# Altium integrated library micro-renesas.IntLib: 17 symbols
Pins are listed as number, name and electrical type; pins without a type are passive.

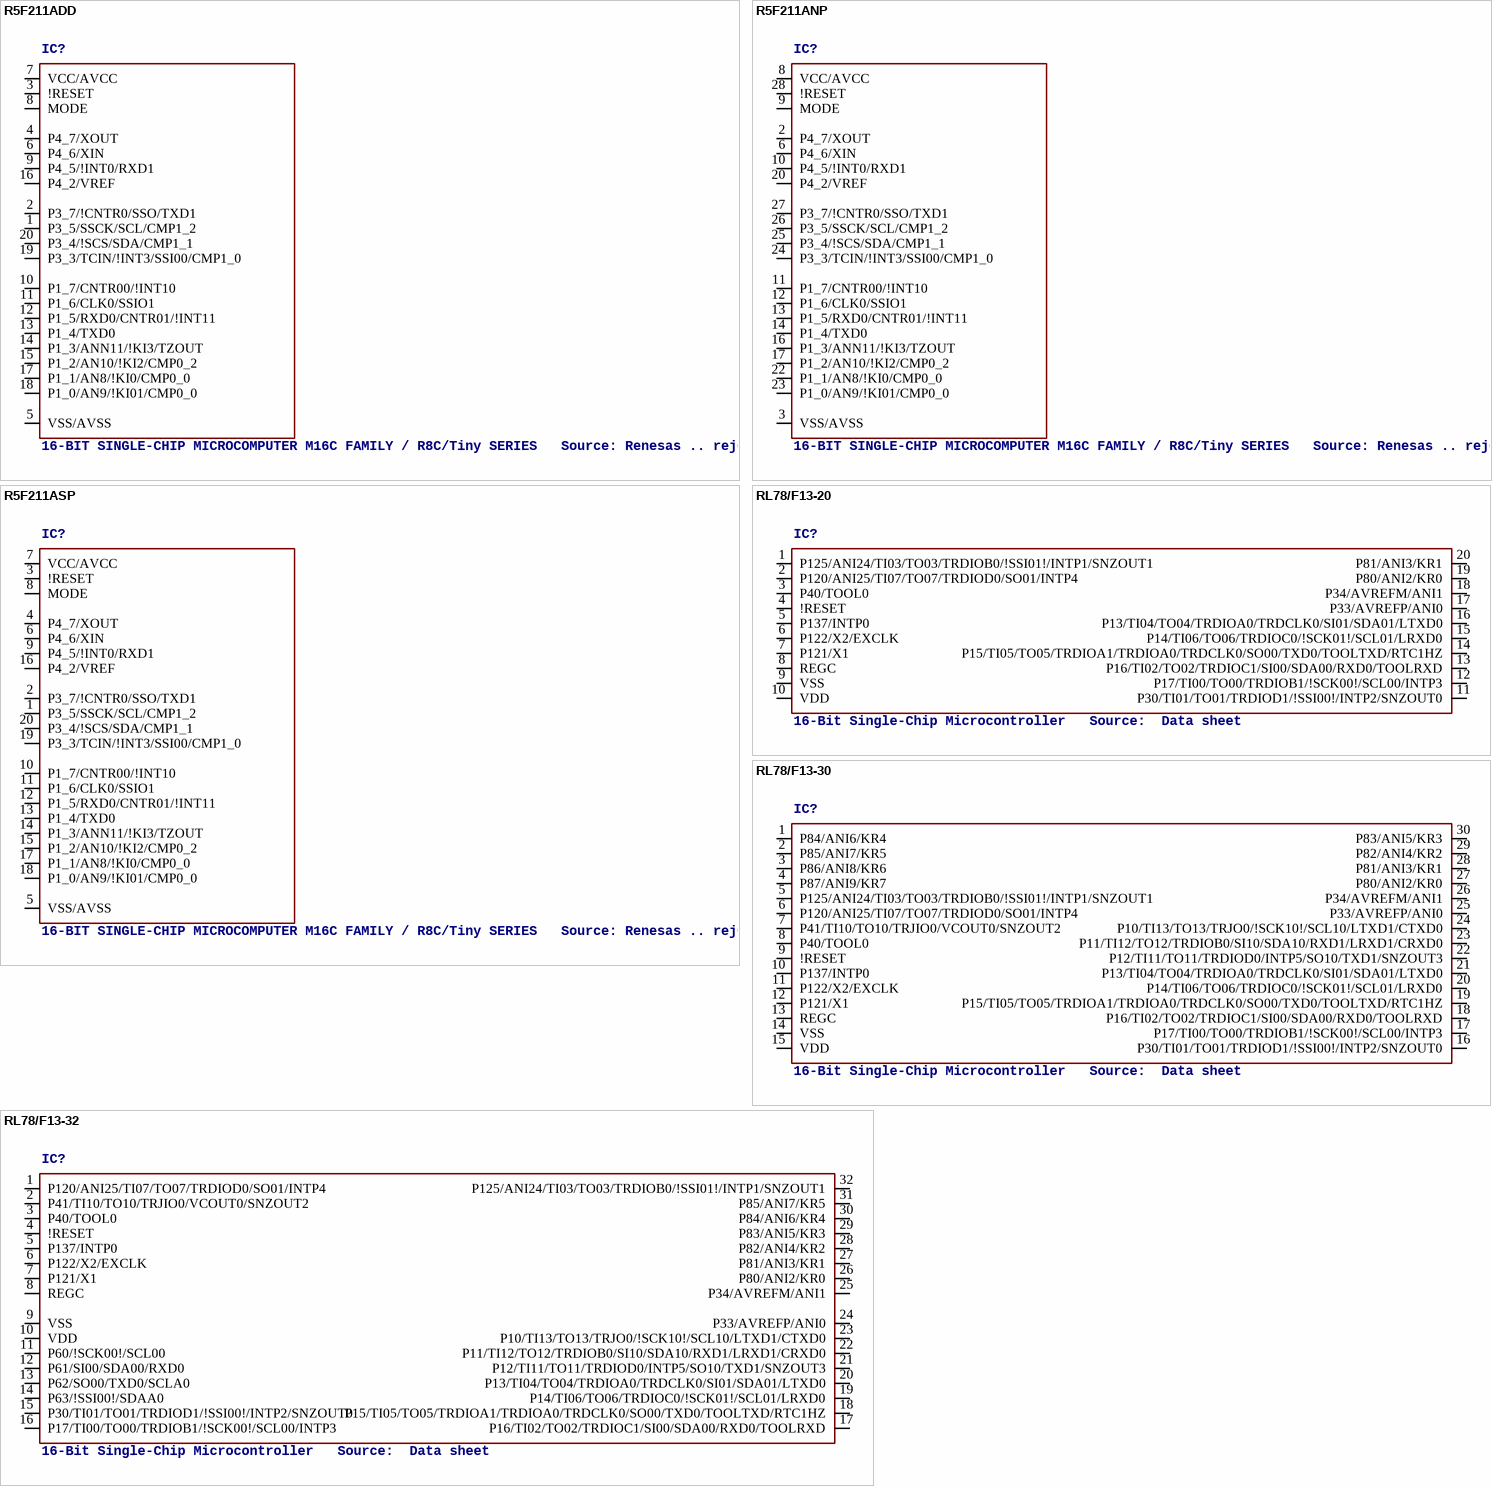
[diagram p0: symbols R5F211ADD to RL78/F13-32]

## R5F211ADD
designator IC?, comment 16-BIT SINGLE-CHIP MICROCOMPUTER M16C FAMILY / R8C/Tiny SERIES   Source: Renesas .. rej09b0252_r8c1a1bhm.pdf
OC_FARNELL: unknown; OC_NEWARK: unknown
footprint PRDP0020BA-A
pins: 1 P3_5/SSCK/SCL/CMP1_2, 2 P3_7/!CNTR0/SSO/TXD1, 3 !RESET, 4 P4_7/XOUT, 5 VSS/AVSS, 6 P4_6/XIN, 7 VCC/AVCC, 8 MODE, 9 P4_5/!INT0/RXD1, 10 P1_7/CNTR00/!INT10, 11 P1_6/CLK0/SSIO1, 12 P1_5/RXD0/CNTR01/!INT11, 13 P1_4/TXD0, 14 P1_3/ANN11/!KI3/TZOUT, 15 P1_2/AN10/!KI2/CMP0_2, 16 P4_2/VREF, 17 P1_1/AN8/!KI0/CMP0_0, 18 P1_0/AN9/!KI01/CMP0_0, 19 P3_3/TCIN/!INT3/SSI00/CMP1_0, 20 P3_4/!SCS/SDA/CMP1_1

## R5F211ANP
designator IC?, comment 16-BIT SINGLE-CHIP MICROCOMPUTER M16C FAMILY / R8C/Tiny SERIES   Source: Renesas .. rej09b0252_r8c1a1bhm.pdf
OC_FARNELL: unknown; OC_NEWARK: unknown
footprint PWQN0028KA-B
pins: 2 P4_7/XOUT, 3 VSS/AVSS, 6 P4_6/XIN, 8 VCC/AVCC, 9 MODE, 10 P4_5/!INT0/RXD1, 11 P1_7/CNTR00/!INT10, 12 P1_6/CLK0/SSIO1, 13 P1_5/RXD0/CNTR01/!INT11, 14 P1_4/TXD0, 16 P1_3/ANN11/!KI3/TZOUT, 17 P1_2/AN10/!KI2/CMP0_2, 20 P4_2/VREF, 22 P1_1/AN8/!KI0/CMP0_0, 23 P1_0/AN9/!KI01/CMP0_0, 24 P3_3/TCIN/!INT3/SSI00/CMP1_0, 25 P3_4/!SCS/SDA/CMP1_1, 26 P3_5/SSCK/SCL/CMP1_2, 27 P3_7/!CNTR0/SSO/TXD1, 28 !RESET

## R5F211ASP
designator IC?, comment 16-BIT SINGLE-CHIP MICROCOMPUTER M16C FAMILY / R8C/Tiny SERIES   Source: Renesas .. rej09b0252_r8c1a1bhm.pdf
MPN: R5F211A4SP#U0; OC_FARNELL: unknown; OC_NEWARK: unknown; OC_FARNELL: 1677765; OC_NEWARK: 40P3229
footprint PLSP0020JB-A
pins: 1 P3_5/SSCK/SCL/CMP1_2, 2 P3_7/!CNTR0/SSO/TXD1, 3 !RESET, 4 P4_7/XOUT, 5 VSS/AVSS, 6 P4_6/XIN, 7 VCC/AVCC, 8 MODE, 9 P4_5/!INT0/RXD1, 10 P1_7/CNTR00/!INT10, 11 P1_6/CLK0/SSIO1, 12 P1_5/RXD0/CNTR01/!INT11, 13 P1_4/TXD0, 14 P1_3/ANN11/!KI3/TZOUT, 15 P1_2/AN10/!KI2/CMP0_2, 16 P4_2/VREF, 17 P1_1/AN8/!KI0/CMP0_0, 18 P1_0/AN9/!KI01/CMP0_0, 19 P3_3/TCIN/!INT3/SSI00/CMP1_0, 20 P3_4/!SCS/SDA/CMP1_1

## RL78/F13-20
designator IC?, comment 16-Bit Single-Chip Microcontroller   Source:  Data sheet
footprint PP_SSOP20_7.62MM
pins: 1 P125/ANI24/TI03/TO03/TRDIOB0/!SSI01!/INTP1/SNZOUT1, 2 P120/ANI25/TI07/TO07/TRDIOD0/SO01/INTP4, 3 P40/TOOL0, 4 !RESET, 5 P137/INTP0, 6 P122/X2/EXCLK, 7 P121/X1, 8 REGC, 9 VSS (power), 10 VDD (power), 11 P30/TI01/TO01/TRDIOD1/!SSI00!/INTP2/SNZOUT0, 12 P17/TI00/TO00/TRDIOB1/!SCK00!/SCL00/INTP3, 13 P16/TI02/TO02/TRDIOC1/SI00/SDA00/RXD0/TOOLRXD, 14 P15/TI05/TO05/TRDIOA1/TRDIOA0/TRDCLK0/SO00/TXD0/TOOLTXD/RTC1HZ, 15 P14/TI06/TO06/TRDIOC0/!SCK01!/SCL01/LRXD0, 16 P13/TI04/TO04/TRDIOA0/TRDCLK0/SI01/SDA01/LTXD0, 17 P33/AVREFP/ANI0, 18 P34/AVREFM/ANI1, 19 P80/ANI2/KR0, 20 P81/ANI3/KR1

## RL78/F13-30
designator IC?, comment 16-Bit Single-Chip Microcontroller   Source:  Data sheet
footprint P-LSSOP30-6.1X9.7
pins: 1 P84/ANI6/KR4, 2 P85/ANI7/KR5, 3 P86/ANI8/KR6, 4 P87/ANI9/KR7, 5 P125/ANI24/TI03/TO03/TRDIOB0/!SSI01!/INTP1/SNZOUT1, 6 P120/ANI25/TI07/TO07/TRDIOD0/SO01/INTP4, 7 P41/TI10/TO10/TRJIO0/VCOUT0/SNZOUT2, 8 P40/TOOL0, 9 !RESET, 10 P137/INTP0, 11 P122/X2/EXCLK, 12 P121/X1, 13 REGC, 14 VSS (power), 15 VDD (power), 16 P30/TI01/TO01/TRDIOD1/!SSI00!/INTP2/SNZOUT0, 17 P17/TI00/TO00/TRDIOB1/!SCK00!/SCL00/INTP3, 18 P16/TI02/TO02/TRDIOC1/SI00/SDA00/RXD0/TOOLRXD, 19 P15/TI05/TO05/TRDIOA1/TRDIOA0/TRDCLK0/SO00/TXD0/TOOLTXD/RTC1HZ, 20 P14/TI06/TO06/TRDIOC0/!SCK01!/SCL01/LRXD0, 21 P13/TI04/TO04/TRDIOA0/TRDCLK0/SI01/SDA01/LTXD0, 22 P12/TI11/TO11/TRDIOD0/INTP5/SO10/TXD1/SNZOUT3, 23 P11/TI12/TO12/TRDIOB0/SI10/SDA10/RXD1/LRXD1/CRXD0, 24 P10/TI13/TO13/TRJO0/!SCK10!/SCL10/LTXD1/CTXD0, 25 P33/AVREFP/ANI0, 26 P34/AVREFM/ANI1, 27 P80/ANI2/KR0, 28 P81/ANI3/KR1, 29 P82/ANI4/KR2, 30 P83/ANI5/KR3

## RL78/F13-32
designator IC?, comment 16-Bit Single-Chip Microcontroller   Source:  Data sheet
footprint P-HVQFN32-5X5
pins: 1 P120/ANI25/TI07/TO07/TRDIOD0/SO01/INTP4, 2 P41/TI10/TO10/TRJIO0/VCOUT0/SNZOUT2, 3 P40/TOOL0, 4 !RESET, 5 P137/INTP0, 6 P122/X2/EXCLK, 7 P121/X1, 8 REGC, 9 VSS (power), 10 VDD (power), 11 P60/!SCK00!/SCL00, 12 P61/SI00/SDA00/RXD0, 13 P62/SO00/TXD0/SCLA0, 14 P63/!SSI00!/SDAA0, 15 P30/TI01/TO01/TRDIOD1/!SSI00!/INTP2/SNZOUT0, 16 P17/TI00/TO00/TRDIOB1/!SCK00!/SCL00/INTP3, 17 P16/TI02/TO02/TRDIOC1/SI00/SDA00/RXD0/TOOLRXD, 18 P15/TI05/TO05/TRDIOA1/TRDIOA0/TRDCLK0/SO00/TXD0/TOOLTXD/RTC1HZ, 19 P14/TI06/TO06/TRDIOC0/!SCK01!/SCL01/LRXD0, 20 P13/TI04/TO04/TRDIOA0/TRDCLK0/SI01/SDA01/LTXD0, 21 P12/TI11/TO11/TRDIOD0/INTP5/SO10/TXD1/SNZOUT3, 22 P11/TI12/TO12/TRDIOB0/SI10/SDA10/RXD1/LRXD1/CRXD0, 23 P10/TI13/TO13/TRJO0/!SCK10!/SCL10/LTXD1/CTXD0, 24 P33/AVREFP/ANI0, 25 P34/AVREFM/ANI1, 26 P80/ANI2/KR0, 27 P81/ANI3/KR1, 28 P82/ANI4/KR2, 29 P83/ANI5/KR3, 30 P84/ANI6/KR4, 31 P85/ANI7/KR5, 32 P125/ANI24/TI03/TO03/TRDIOB0/!SSI01!/INTP1/SNZOUT1

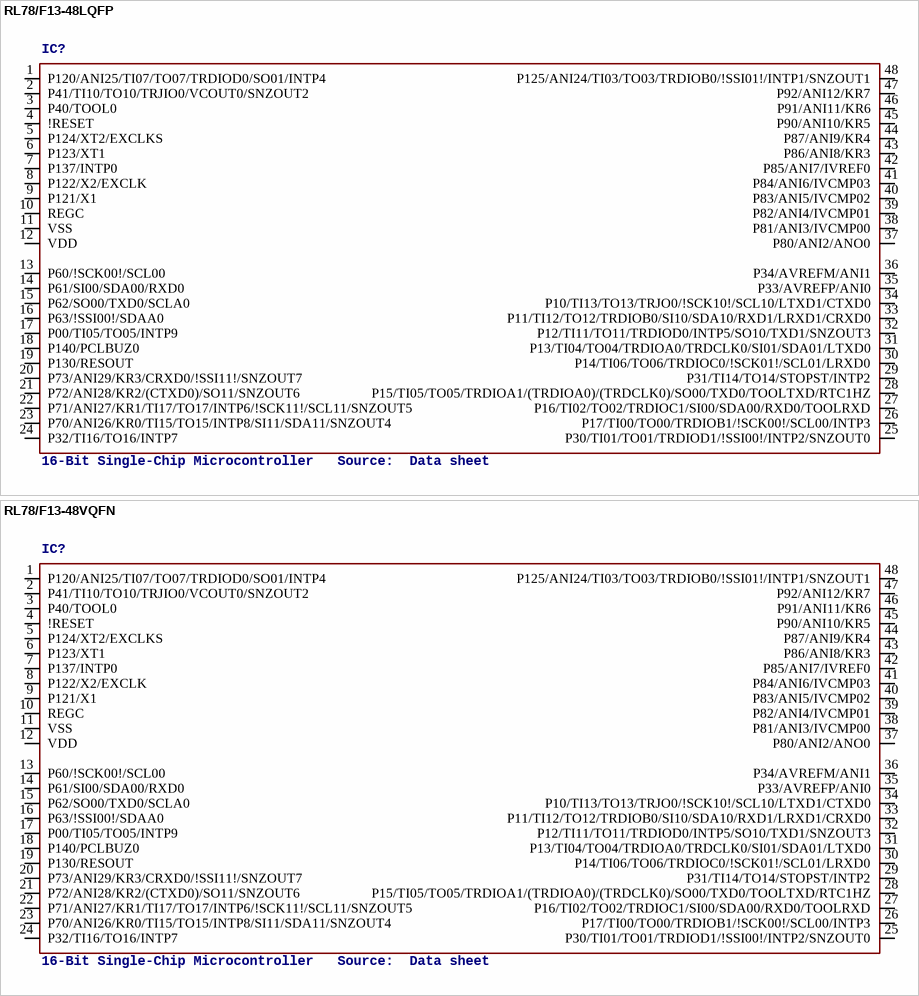
[diagram p1: symbols RL78/F13-48LQFP to RL78/F13-48VQFN]

## RL78/F13-48LQFP
designator IC?, comment 16-Bit Single-Chip Microcontroller   Source:  Data sheet
footprint P-LFQFP48-7X7
pins: 1 P120/ANI25/TI07/TO07/TRDIOD0/SO01/INTP4, 2 P41/TI10/TO10/TRJIO0/VCOUT0/SNZOUT2, 3 P40/TOOL0, 4 !RESET, 5 P124/XT2/EXCLKS, 6 P123/XT1, 7 P137/INTP0, 8 P122/X2/EXCLK, 9 P121/X1, 10 REGC, 11 VSS (power), 12 VDD (power), 13 P60/!SCK00!/SCL00, 14 P61/SI00/SDA00/RXD0, 15 P62/SO00/TXD0/SCLA0, 16 P63/!SSI00!/SDAA0, 17 P00/TI05/TO05/INTP9, 18 P140/PCLBUZ0, 19 P130/RESOUT, 20 P73/ANI29/KR3/CRXD0/!SSI11!/SNZOUT7, 21 P72/ANI28/KR2/(CTXD0)/SO11/SNZOUT6, 22 P71/ANI27/KR1/TI17/TO17/INTP6/!SCK11!/SCL11/SNZOUT5, 23 P70/ANI26/KR0/TI15/TO15/INTP8/SI11/SDA11/SNZOUT4, 24 P32/TI16/TO16/INTP7, 25 P30/TI01/TO01/TRDIOD1/!SSI00!/INTP2/SNZOUT0, 26 P17/TI00/TO00/TRDIOB1/!SCK00!/SCL00/INTP3, 27 P16/TI02/TO02/TRDIOC1/SI00/SDA00/RXD0/TOOLRXD, 28 P15/TI05/TO05/TRDIOA1/(TRDIOA0)/(TRDCLK0)/SO00/TXD0/TOOLTXD/RTC1HZ, 29 P31/TI14/TO14/STOPST/INTP2, 30 P14/TI06/TO06/TRDIOC0/!SCK01!/SCL01/LRXD0, 31 P13/TI04/TO04/TRDIOA0/TRDCLK0/SI01/SDA01/LTXD0, 32 P12/TI11/TO11/TRDIOD0/INTP5/SO10/TXD1/SNZOUT3, 33 P11/TI12/TO12/TRDIOB0/SI10/SDA10/RXD1/LRXD1/CRXD0, 34 P10/TI13/TO13/TRJO0/!SCK10!/SCL10/LTXD1/CTXD0, 35 P33/AVREFP/ANI0, 36 P34/AVREFM/ANI1, 37 P80/ANI2/ANO0, 38 P81/ANI3/IVCMP00, 39 P82/ANI4/IVCMP01, 40 P83/ANI5/IVCMP02, 41 P84/ANI6/IVCMP03, 42 P85/ANI7/IVREF0, 43 P86/ANI8/KR3, 44 P87/ANI9/KR4, 45 P90/ANI10/KR5, 46 P91/ANI11/KR6, 47 P92/ANI12/KR7, 48 P125/ANI24/TI03/TO03/TRDIOB0/!SSI01!/INTP1/SNZOUT1

## RL78/F13-48VQFN
designator IC?, comment 16-Bit Single-Chip Microcontroller   Source:  Data sheet
footprint P-HVQFN48-7X7
pins: 1 P120/ANI25/TI07/TO07/TRDIOD0/SO01/INTP4, 2 P41/TI10/TO10/TRJIO0/VCOUT0/SNZOUT2, 3 P40/TOOL0, 4 !RESET, 5 P124/XT2/EXCLKS, 6 P123/XT1, 7 P137/INTP0, 8 P122/X2/EXCLK, 9 P121/X1, 10 REGC, 11 VSS (power), 12 VDD (power), 13 P60/!SCK00!/SCL00, 14 P61/SI00/SDA00/RXD0, 15 P62/SO00/TXD0/SCLA0, 16 P63/!SSI00!/SDAA0, 17 P00/TI05/TO05/INTP9, 18 P140/PCLBUZ0, 19 P130/RESOUT, 20 P73/ANI29/KR3/CRXD0/!SSI11!/SNZOUT7, 21 P72/ANI28/KR2/(CTXD0)/SO11/SNZOUT6, 22 P71/ANI27/KR1/TI17/TO17/INTP6/!SCK11!/SCL11/SNZOUT5, 23 P70/ANI26/KR0/TI15/TO15/INTP8/SI11/SDA11/SNZOUT4, 24 P32/TI16/TO16/INTP7, 25 P30/TI01/TO01/TRDIOD1/!SSI00!/INTP2/SNZOUT0, 26 P17/TI00/TO00/TRDIOB1/!SCK00!/SCL00/INTP3, 27 P16/TI02/TO02/TRDIOC1/SI00/SDA00/RXD0/TOOLRXD, 28 P15/TI05/TO05/TRDIOA1/(TRDIOA0)/(TRDCLK0)/SO00/TXD0/TOOLTXD/RTC1HZ, 29 P31/TI14/TO14/STOPST/INTP2, 30 P14/TI06/TO06/TRDIOC0/!SCK01!/SCL01/LRXD0, 31 P13/TI04/TO04/TRDIOA0/TRDCLK0/SI01/SDA01/LTXD0, 32 P12/TI11/TO11/TRDIOD0/INTP5/SO10/TXD1/SNZOUT3, 33 P11/TI12/TO12/TRDIOB0/SI10/SDA10/RXD1/LRXD1/CRXD0, 34 P10/TI13/TO13/TRJO0/!SCK10!/SCL10/LTXD1/CTXD0, 35 P33/AVREFP/ANI0, 36 P34/AVREFM/ANI1, 37 P80/ANI2/ANO0, 38 P81/ANI3/IVCMP00, 39 P82/ANI4/IVCMP01, 40 P83/ANI5/IVCMP02, 41 P84/ANI6/IVCMP03, 42 P85/ANI7/IVREF0, 43 P86/ANI8/KR3, 44 P87/ANI9/KR4, 45 P90/ANI10/KR5, 46 P91/ANI11/KR6, 47 P92/ANI12/KR7, 48 P125/ANI24/TI03/TO03/TRDIOB0/!SSI01!/INTP1/SNZOUT1

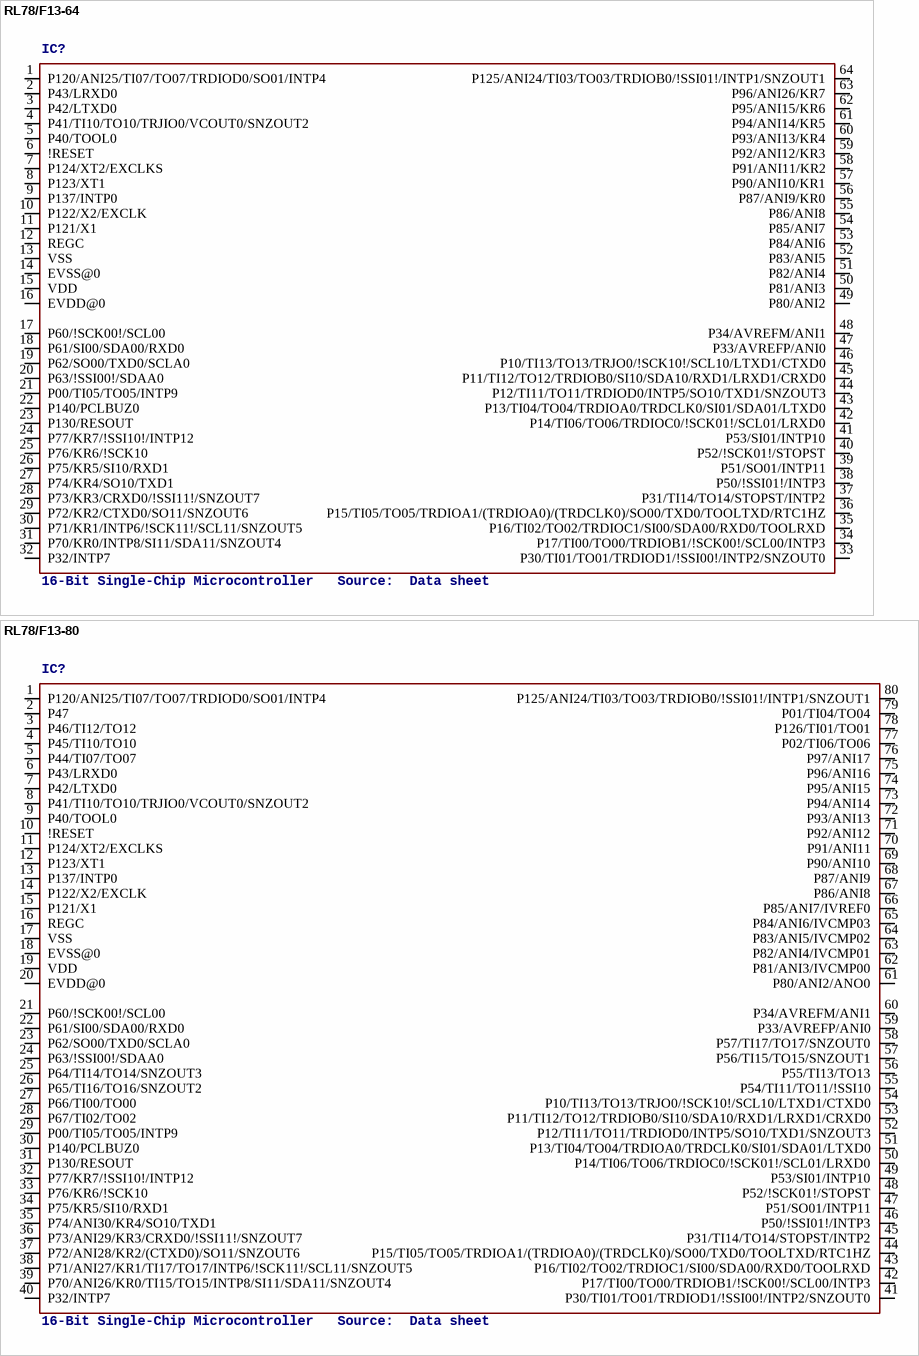
[diagram p2: symbols RL78/F13-64 to RL78/F13-80]

## RL78/F13-64
designator IC?, comment 16-Bit Single-Chip Microcontroller   Source:  Data sheet
footprint P-LFQFP64-10X10
pins: 1 P120/ANI25/TI07/TO07/TRDIOD0/SO01/INTP4, 2 P43/LRXD0, 3 P42/LTXD0, 4 P41/TI10/TO10/TRJIO0/VCOUT0/SNZOUT2, 5 P40/TOOL0, 6 !RESET, 7 P124/XT2/EXCLKS, 8 P123/XT1, 9 P137/INTP0, 10 P122/X2/EXCLK, 11 P121/X1, 12 REGC, 13 VSS (power), 14 EVSS@0 (power), 15 VDD (power), 16 EVDD@0 (power), 17 P60/!SCK00!/SCL00, 18 P61/SI00/SDA00/RXD0, 19 P62/SO00/TXD0/SCLA0, 20 P63/!SSI00!/SDAA0, 21 P00/TI05/TO05/INTP9, 22 P140/PCLBUZ0, 23 P130/RESOUT, 24 P77/KR7/!SSI10!/INTP12, 25 P76/KR6/!SCK10, 26 P75/KR5/SI10/RXD1, 27 P74/KR4/SO10/TXD1, 28 P73/KR3/CRXD0/!SSI11!/SNZOUT7, 29 P72/KR2/CTXD0/SO11/SNZOUT6, 30 P71/KR1/INTP6/!SCK11!/SCL11/SNZOUT5, 31 P70/KR0/INTP8/SI11/SDA11/SNZOUT4, 32 P32/INTP7, 33 P30/TI01/TO01/TRDIOD1/!SSI00!/INTP2/SNZOUT0, 34 P17/TI00/TO00/TRDIOB1/!SCK00!/SCL00/INTP3, 35 P16/TI02/TO02/TRDIOC1/SI00/SDA00/RXD0/TOOLRXD, 36 P15/TI05/TO05/TRDIOA1/(TRDIOA0)/(TRDCLK0)/SO00/TXD0/TOOLTXD/RTC1HZ, 37 P31/TI14/TO14/STOPST/INTP2, 38 P50/!SSI01!/INTP3, 39 P51/SO01/INTP11, 40 P52/!SCK01!/STOPST, 41 P53/SI01/INTP10, 42 P14/TI06/TO06/TRDIOC0/!SCK01!/SCL01/LRXD0, 43 P13/TI04/TO04/TRDIOA0/TRDCLK0/SI01/SDA01/LTXD0, 44 P12/TI11/TO11/TRDIOD0/INTP5/SO10/TXD1/SNZOUT3, 45 P11/TI12/TO12/TRDIOB0/SI10/SDA10/RXD1/LRXD1/CRXD0, 46 P10/TI13/TO13/TRJO0/!SCK10!/SCL10/LTXD1/CTXD0, 47 P33/AVREFP/ANI0, 48 P34/AVREFM/ANI1, 49 P80/ANI2, 50 P81/ANI3, 51 P82/ANI4, 52 P83/ANI5, 53 P84/ANI6, 54 P85/ANI7, 55 P86/ANI8, 56 P87/ANI9/KR0, 57 P90/ANI10/KR1, 58 P91/ANI11/KR2, 59 P92/ANI12/KR3, 60 P93/ANI13/KR4, 61 P94/ANI14/KR5, 62 P95/ANI15/KR6, 63 P96/ANI26/KR7, 64 P125/ANI24/TI03/TO03/TRDIOB0/!SSI01!/INTP1/SNZOUT1

## RL78/F13-80
designator IC?, comment 16-Bit Single-Chip Microcontroller   Source:  Data sheet
footprint P-LFQFP80-12X12
pins: 1 P120/ANI25/TI07/TO07/TRDIOD0/SO01/INTP4, 2 P47, 3 P46/TI12/TO12, 4 P45/TI10/TO10, 5 P44/TI07/TO07, 6 P43/LRXD0, 7 P42/LTXD0, 8 P41/TI10/TO10/TRJIO0/VCOUT0/SNZOUT2, 9 P40/TOOL0, 10 !RESET, 11 P124/XT2/EXCLKS, 12 P123/XT1, 13 P137/INTP0, 14 P122/X2/EXCLK, 15 P121/X1, 16 REGC, 17 VSS (power), 18 EVSS@0 (power), 19 VDD (power), 20 EVDD@0 (power), 21 P60/!SCK00!/SCL00, 22 P61/SI00/SDA00/RXD0, 23 P62/SO00/TXD0/SCLA0, 24 P63/!SSI00!/SDAA0, 25 P64/TI14/TO14/SNZOUT3, 26 P65/TI16/TO16/SNZOUT2, 27 P66/TI00/TO00, 28 P67/TI02/TO02, 29 P00/TI05/TO05/INTP9, 30 P140/PCLBUZ0, 31 P130/RESOUT, 32 P77/KR7/!SSI10!/INTP12, 33 P76/KR6/!SCK10, 34 P75/KR5/SI10/RXD1, 35 P74/ANI30/KR4/SO10/TXD1, 36 P73/ANI29/KR3/CRXD0/!SSI11!/SNZOUT7, 37 P72/ANI28/KR2/(CTXD0)/SO11/SNZOUT6, 38 P71/ANI27/KR1/TI17/TO17/INTP6/!SCK11!/SCL11/SNZOUT5, 39 P70/ANI26/KR0/TI15/TO15/INTP8/SI11/SDA11/SNZOUT4, 40 P32/INTP7, 41 P30/TI01/TO01/TRDIOD1/!SSI00!/INTP2/SNZOUT0, 42 P17/TI00/TO00/TRDIOB1/!SCK00!/SCL00/INTP3, 43 P16/TI02/TO02/TRDIOC1/SI00/SDA00/RXD0/TOOLRXD, 44 P15/TI05/TO05/TRDIOA1/(TRDIOA0)/(TRDCLK0)/SO00/TXD0/TOOLTXD/RTC1HZ, 45 P31/TI14/TO14/STOPST/INTP2, 46 P50/!SSI01!/INTP3, 47 P51/SO01/INTP11, 48 P52/!SCK01!/STOPST, 49 P53/SI01/INTP10, 50 P14/TI06/TO06/TRDIOC0/!SCK01!/SCL01/LRXD0, 51 P13/TI04/TO04/TRDIOA0/TRDCLK0/SI01/SDA01/LTXD0, 52 P12/TI11/TO11/TRDIOD0/INTP5/SO10/TXD1/SNZOUT3, 53 P11/TI12/TO12/TRDIOB0/SI10/SDA10/RXD1/LRXD1/CRXD0, 54 P10/TI13/TO13/TRJO0/!SCK10!/SCL10/LTXD1/CTXD0, 55 P54/TI11/TO11/!SSI10, 56 P55/TI13/TO13, 57 P56/TI15/TO15/SNZOUT1, 58 P57/TI17/TO17/SNZOUT0, 59 P33/AVREFP/ANI0, 60 P34/AVREFM/ANI1, 61 P80/ANI2/ANO0, 62 P81/ANI3/IVCMP00, 63 P82/ANI4/IVCMP01, 64 P83/ANI5/IVCMP02, 65 P84/ANI6/IVCMP03, 66 P85/ANI7/IVREF0, 67 P86/ANI8, 68 P87/ANI9, 69 P90/ANI10, 70 P91/ANI11, 71 P92/ANI12, 72 P93/ANI13, 73 P94/ANI14, 74 P95/ANI15, 75 P96/ANI16, 76 P97/ANI17, 77 P02/TI06/TO06, 78 P126/TI01/TO01, 79 P01/TI04/TO04, 80 P125/ANI24/TI03/TO03/TRDIOB0/!SSI01!/INTP1/SNZOUT1

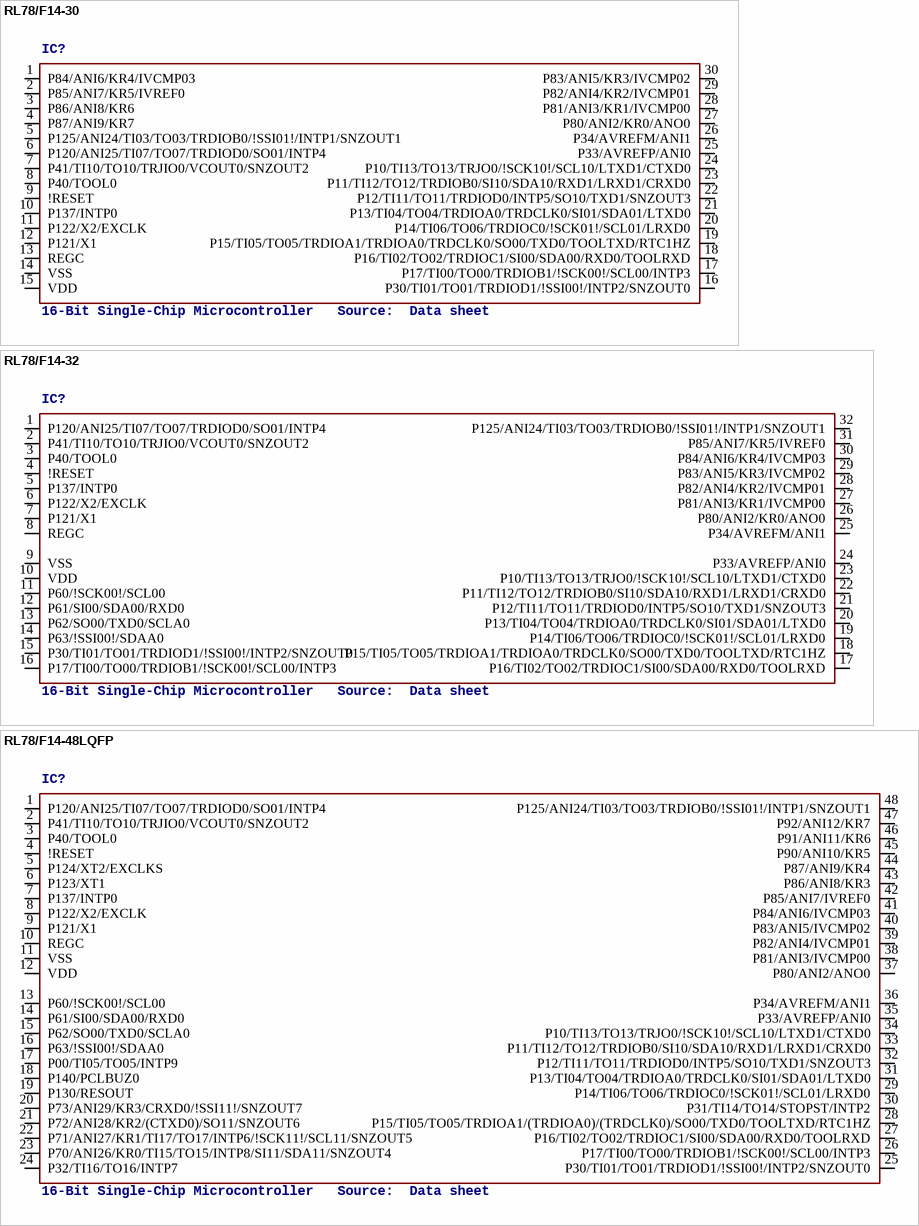
[diagram p3: symbols RL78/F14-30 to RL78/F14-48LQFP]

## RL78/F14-30
designator IC?, comment 16-Bit Single-Chip Microcontroller   Source:  Data sheet
footprint P-LSSOP30-6.1X9.7
pins: 1 P84/ANI6/KR4/IVCMP03, 2 P85/ANI7/KR5/IVREF0, 3 P86/ANI8/KR6, 4 P87/ANI9/KR7, 5 P125/ANI24/TI03/TO03/TRDIOB0/!SSI01!/INTP1/SNZOUT1, 6 P120/ANI25/TI07/TO07/TRDIOD0/SO01/INTP4, 7 P41/TI10/TO10/TRJIO0/VCOUT0/SNZOUT2, 8 P40/TOOL0, 9 !RESET, 10 P137/INTP0, 11 P122/X2/EXCLK, 12 P121/X1, 13 REGC, 14 VSS (power), 15 VDD (power), 16 P30/TI01/TO01/TRDIOD1/!SSI00!/INTP2/SNZOUT0, 17 P17/TI00/TO00/TRDIOB1/!SCK00!/SCL00/INTP3, 18 P16/TI02/TO02/TRDIOC1/SI00/SDA00/RXD0/TOOLRXD, 19 P15/TI05/TO05/TRDIOA1/TRDIOA0/TRDCLK0/SO00/TXD0/TOOLTXD/RTC1HZ, 20 P14/TI06/TO06/TRDIOC0/!SCK01!/SCL01/LRXD0, 21 P13/TI04/TO04/TRDIOA0/TRDCLK0/SI01/SDA01/LTXD0, 22 P12/TI11/TO11/TRDIOD0/INTP5/SO10/TXD1/SNZOUT3, 23 P11/TI12/TO12/TRDIOB0/SI10/SDA10/RXD1/LRXD1/CRXD0, 24 P10/TI13/TO13/TRJO0/!SCK10!/SCL10/LTXD1/CTXD0, 25 P33/AVREFP/ANI0, 26 P34/AVREFM/ANI1, 27 P80/ANI2/KR0/ANO0, 28 P81/ANI3/KR1/IVCMP00, 29 P82/ANI4/KR2/IVCMP01, 30 P83/ANI5/KR3/IVCMP02

## RL78/F14-32
designator IC?, comment 16-Bit Single-Chip Microcontroller   Source:  Data sheet
footprint P-HVQFN32-5X5
pins: 1 P120/ANI25/TI07/TO07/TRDIOD0/SO01/INTP4, 2 P41/TI10/TO10/TRJIO0/VCOUT0/SNZOUT2, 3 P40/TOOL0, 4 !RESET, 5 P137/INTP0, 6 P122/X2/EXCLK, 7 P121/X1, 8 REGC, 9 VSS (power), 10 VDD (power), 11 P60/!SCK00!/SCL00, 12 P61/SI00/SDA00/RXD0, 13 P62/SO00/TXD0/SCLA0, 14 P63/!SSI00!/SDAA0, 15 P30/TI01/TO01/TRDIOD1/!SSI00!/INTP2/SNZOUT0, 16 P17/TI00/TO00/TRDIOB1/!SCK00!/SCL00/INTP3, 17 P16/TI02/TO02/TRDIOC1/SI00/SDA00/RXD0/TOOLRXD, 18 P15/TI05/TO05/TRDIOA1/TRDIOA0/TRDCLK0/SO00/TXD0/TOOLTXD/RTC1HZ, 19 P14/TI06/TO06/TRDIOC0/!SCK01!/SCL01/LRXD0, 20 P13/TI04/TO04/TRDIOA0/TRDCLK0/SI01/SDA01/LTXD0, 21 P12/TI11/TO11/TRDIOD0/INTP5/SO10/TXD1/SNZOUT3, 22 P11/TI12/TO12/TRDIOB0/SI10/SDA10/RXD1/LRXD1/CRXD0, 23 P10/TI13/TO13/TRJO0/!SCK10!/SCL10/LTXD1/CTXD0, 24 P33/AVREFP/ANI0, 25 P34/AVREFM/ANI1, 26 P80/ANI2/KR0/ANO0, 27 P81/ANI3/KR1/IVCMP00, 28 P82/ANI4/KR2/IVCMP01, 29 P83/ANI5/KR3/IVCMP02, 30 P84/ANI6/KR4/IVCMP03, 31 P85/ANI7/KR5/IVREF0, 32 P125/ANI24/TI03/TO03/TRDIOB0/!SSI01!/INTP1/SNZOUT1

## RL78/F14-48LQFP
designator IC?, comment 16-Bit Single-Chip Microcontroller   Source:  Data sheet
footprint P-LFQFP48-7X7
pins: 1 P120/ANI25/TI07/TO07/TRDIOD0/SO01/INTP4, 2 P41/TI10/TO10/TRJIO0/VCOUT0/SNZOUT2, 3 P40/TOOL0, 4 !RESET, 5 P124/XT2/EXCLKS, 6 P123/XT1, 7 P137/INTP0, 8 P122/X2/EXCLK, 9 P121/X1, 10 REGC, 11 VSS (power), 12 VDD (power), 13 P60/!SCK00!/SCL00, 14 P61/SI00/SDA00/RXD0, 15 P62/SO00/TXD0/SCLA0, 16 P63/!SSI00!/SDAA0, 17 P00/TI05/TO05/INTP9, 18 P140/PCLBUZ0, 19 P130/RESOUT, 20 P73/ANI29/KR3/CRXD0/!SSI11!/SNZOUT7, 21 P72/ANI28/KR2/(CTXD0)/SO11/SNZOUT6, 22 P71/ANI27/KR1/TI17/TO17/INTP6/!SCK11!/SCL11/SNZOUT5, 23 P70/ANI26/KR0/TI15/TO15/INTP8/SI11/SDA11/SNZOUT4, 24 P32/TI16/TO16/INTP7, 25 P30/TI01/TO01/TRDIOD1/!SSI00!/INTP2/SNZOUT0, 26 P17/TI00/TO00/TRDIOB1/!SCK00!/SCL00/INTP3, 27 P16/TI02/TO02/TRDIOC1/SI00/SDA00/RXD0/TOOLRXD, 28 P15/TI05/TO05/TRDIOA1/(TRDIOA0)/(TRDCLK0)/SO00/TXD0/TOOLTXD/RTC1HZ, 29 P14/TI06/TO06/TRDIOC0/!SCK01!/SCL01/LRXD0, 30 P31/TI14/TO14/STOPST/INTP2, 31 P13/TI04/TO04/TRDIOA0/TRDCLK0/SI01/SDA01/LTXD0, 32 P12/TI11/TO11/TRDIOD0/INTP5/SO10/TXD1/SNZOUT3, 33 P11/TI12/TO12/TRDIOB0/SI10/SDA10/RXD1/LRXD1/CRXD0, 34 P10/TI13/TO13/TRJO0/!SCK10!/SCL10/LTXD1/CTXD0, 35 P33/AVREFP/ANI0, 36 P34/AVREFM/ANI1, 37 P80/ANI2/ANO0, 38 P81/ANI3/IVCMP00, 39 P82/ANI4/IVCMP01, 40 P83/ANI5/IVCMP02, 41 P84/ANI6/IVCMP03, 42 P85/ANI7/IVREF0, 43 P86/ANI8/KR3, 44 P87/ANI9/KR4, 45 P90/ANI10/KR5, 46 P91/ANI11/KR6, 47 P92/ANI12/KR7, 48 P125/ANI24/TI03/TO03/TRDIOB0/!SSI01!/INTP1/SNZOUT1

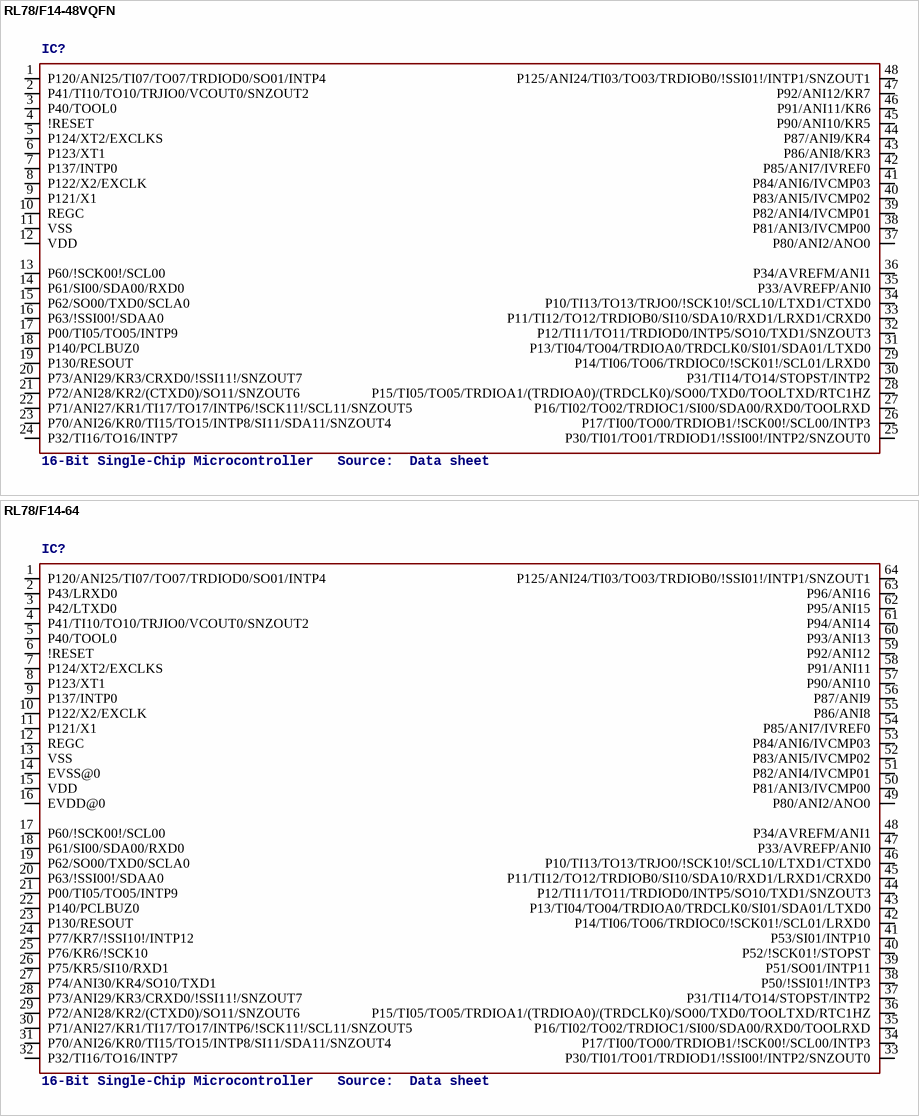
[diagram p4: symbols RL78/F14-48VQFN to RL78/F14-64]

## RL78/F14-48VQFN
designator IC?, comment 16-Bit Single-Chip Microcontroller   Source:  Data sheet
footprint P-HVQFN48-7X7
pins: 1 P120/ANI25/TI07/TO07/TRDIOD0/SO01/INTP4, 2 P41/TI10/TO10/TRJIO0/VCOUT0/SNZOUT2, 3 P40/TOOL0, 4 !RESET, 5 P124/XT2/EXCLKS, 6 P123/XT1, 7 P137/INTP0, 8 P122/X2/EXCLK, 9 P121/X1, 10 REGC, 11 VSS (power), 12 VDD (power), 13 P60/!SCK00!/SCL00, 14 P61/SI00/SDA00/RXD0, 15 P62/SO00/TXD0/SCLA0, 16 P63/!SSI00!/SDAA0, 17 P00/TI05/TO05/INTP9, 18 P140/PCLBUZ0, 19 P130/RESOUT, 20 P73/ANI29/KR3/CRXD0/!SSI11!/SNZOUT7, 21 P72/ANI28/KR2/(CTXD0)/SO11/SNZOUT6, 22 P71/ANI27/KR1/TI17/TO17/INTP6/!SCK11!/SCL11/SNZOUT5, 23 P70/ANI26/KR0/TI15/TO15/INTP8/SI11/SDA11/SNZOUT4, 24 P32/TI16/TO16/INTP7, 25 P30/TI01/TO01/TRDIOD1/!SSI00!/INTP2/SNZOUT0, 26 P17/TI00/TO00/TRDIOB1/!SCK00!/SCL00/INTP3, 27 P16/TI02/TO02/TRDIOC1/SI00/SDA00/RXD0/TOOLRXD, 28 P15/TI05/TO05/TRDIOA1/(TRDIOA0)/(TRDCLK0)/SO00/TXD0/TOOLTXD/RTC1HZ, 29 P14/TI06/TO06/TRDIOC0/!SCK01!/SCL01/LRXD0, 30 P31/TI14/TO14/STOPST/INTP2, 31 P13/TI04/TO04/TRDIOA0/TRDCLK0/SI01/SDA01/LTXD0, 32 P12/TI11/TO11/TRDIOD0/INTP5/SO10/TXD1/SNZOUT3, 33 P11/TI12/TO12/TRDIOB0/SI10/SDA10/RXD1/LRXD1/CRXD0, 34 P10/TI13/TO13/TRJO0/!SCK10!/SCL10/LTXD1/CTXD0, 35 P33/AVREFP/ANI0, 36 P34/AVREFM/ANI1, 37 P80/ANI2/ANO0, 38 P81/ANI3/IVCMP00, 39 P82/ANI4/IVCMP01, 40 P83/ANI5/IVCMP02, 41 P84/ANI6/IVCMP03, 42 P85/ANI7/IVREF0, 43 P86/ANI8/KR3, 44 P87/ANI9/KR4, 45 P90/ANI10/KR5, 46 P91/ANI11/KR6, 47 P92/ANI12/KR7, 48 P125/ANI24/TI03/TO03/TRDIOB0/!SSI01!/INTP1/SNZOUT1

## RL78/F14-64
designator IC?, comment 16-Bit Single-Chip Microcontroller   Source:  Data sheet
footprint P-LFQFP64-10X10
pins: 1 P120/ANI25/TI07/TO07/TRDIOD0/SO01/INTP4, 2 P43/LRXD0, 3 P42/LTXD0, 4 P41/TI10/TO10/TRJIO0/VCOUT0/SNZOUT2, 5 P40/TOOL0, 6 !RESET, 7 P124/XT2/EXCLKS, 8 P123/XT1, 9 P137/INTP0, 10 P122/X2/EXCLK, 11 P121/X1, 12 REGC, 13 VSS (power), 14 EVSS@0 (power), 15 VDD (power), 16 EVDD@0 (power), 17 P60/!SCK00!/SCL00, 18 P61/SI00/SDA00/RXD0, 19 P62/SO00/TXD0/SCLA0, 20 P63/!SSI00!/SDAA0, 21 P00/TI05/TO05/INTP9, 22 P140/PCLBUZ0, 23 P130/RESOUT, 24 P77/KR7/!SSI10!/INTP12, 25 P76/KR6/!SCK10, 26 P75/KR5/SI10/RXD1, 27 P74/ANI30/KR4/SO10/TXD1, 28 P73/ANI29/KR3/CRXD0/!SSI11!/SNZOUT7, 29 P72/ANI28/KR2/(CTXD0)/SO11/SNZOUT6, 30 P71/ANI27/KR1/TI17/TO17/INTP6/!SCK11!/SCL11/SNZOUT5, 31 P70/ANI26/KR0/TI15/TO15/INTP8/SI11/SDA11/SNZOUT4, 32 P32/TI16/TO16/INTP7, 33 P30/TI01/TO01/TRDIOD1/!SSI00!/INTP2/SNZOUT0, 34 P17/TI00/TO00/TRDIOB1/!SCK00!/SCL00/INTP3, 35 P16/TI02/TO02/TRDIOC1/SI00/SDA00/RXD0/TOOLRXD, 36 P15/TI05/TO05/TRDIOA1/(TRDIOA0)/(TRDCLK0)/SO00/TXD0/TOOLTXD/RTC1HZ, 37 P31/TI14/TO14/STOPST/INTP2, 38 P50/!SSI01!/INTP3, 39 P51/SO01/INTP11, 40 P52/!SCK01!/STOPST, 41 P53/SI01/INTP10, 42 P14/TI06/TO06/TRDIOC0/!SCK01!/SCL01/LRXD0, 43 P13/TI04/TO04/TRDIOA0/TRDCLK0/SI01/SDA01/LTXD0, 44 P12/TI11/TO11/TRDIOD0/INTP5/SO10/TXD1/SNZOUT3, 45 P11/TI12/TO12/TRDIOB0/SI10/SDA10/RXD1/LRXD1/CRXD0, 46 P10/TI13/TO13/TRJO0/!SCK10!/SCL10/LTXD1/CTXD0, 47 P33/AVREFP/ANI0, 48 P34/AVREFM/ANI1, 49 P80/ANI2/ANO0, 50 P81/ANI3/IVCMP00, 51 P82/ANI4/IVCMP01, 52 P83/ANI5/IVCMP02, 53 P84/ANI6/IVCMP03, 54 P85/ANI7/IVREF0, 55 P86/ANI8, 56 P87/ANI9, 57 P90/ANI10, 58 P91/ANI11, 59 P92/ANI12, 60 P93/ANI13, 61 P94/ANI14, 62 P95/ANI15, 63 P96/ANI16, 64 P125/ANI24/TI03/TO03/TRDIOB0/!SSI01!/INTP1/SNZOUT1

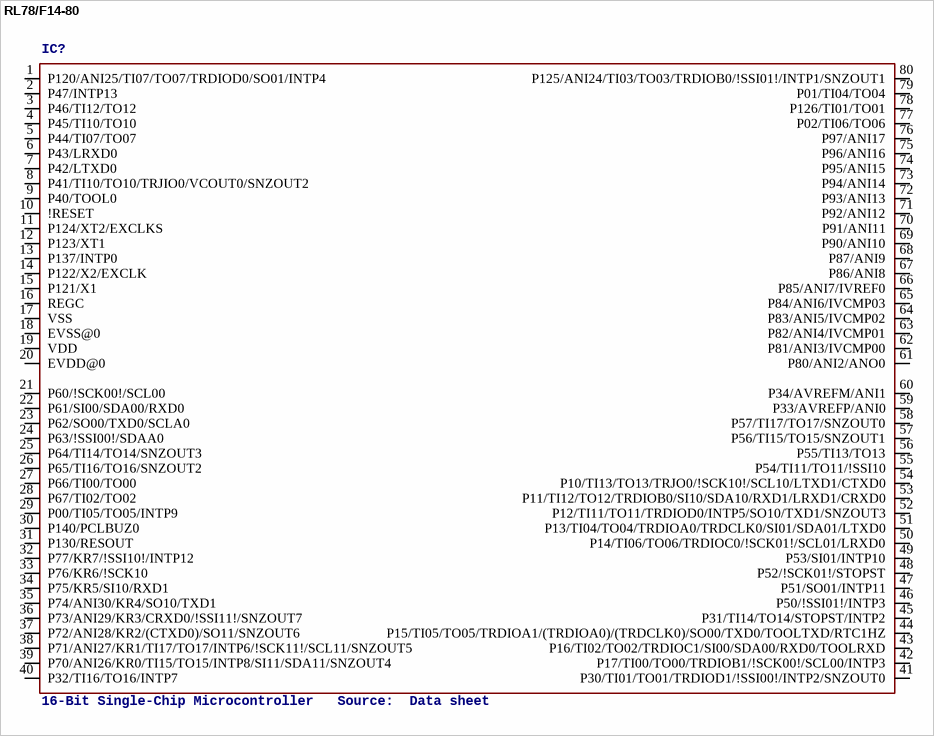
[diagram p5: symbol RL78/F14-80]

## RL78/F14-80
designator IC?, comment 16-Bit Single-Chip Microcontroller   Source:  Data sheet
footprint P-LFQFP80-12X12
pins: 1 P120/ANI25/TI07/TO07/TRDIOD0/SO01/INTP4, 2 P47/INTP13, 3 P46/TI12/TO12, 4 P45/TI10/TO10, 5 P44/TI07/TO07, 6 P43/LRXD0, 7 P42/LTXD0, 8 P41/TI10/TO10/TRJIO0/VCOUT0/SNZOUT2, 9 P40/TOOL0, 10 !RESET, 11 P124/XT2/EXCLKS, 12 P123/XT1, 13 P137/INTP0, 14 P122/X2/EXCLK, 15 P121/X1, 16 REGC, 17 VSS (power), 18 EVSS@0 (power), 19 VDD (power), 20 EVDD@0 (power), 21 P60/!SCK00!/SCL00, 22 P61/SI00/SDA00/RXD0, 23 P62/SO00/TXD0/SCLA0, 24 P63/!SSI00!/SDAA0, 25 P64/TI14/TO14/SNZOUT3, 26 P65/TI16/TO16/SNZOUT2, 27 P66/TI00/TO00, 28 P67/TI02/TO02, 29 P00/TI05/TO05/INTP9, 30 P140/PCLBUZ0, 31 P130/RESOUT, 32 P77/KR7/!SSI10!/INTP12, 33 P76/KR6/!SCK10, 34 P75/KR5/SI10/RXD1, 35 P74/ANI30/KR4/SO10/TXD1, 36 P73/ANI29/KR3/CRXD0/!SSI11!/SNZOUT7, 37 P72/ANI28/KR2/(CTXD0)/SO11/SNZOUT6, 38 P71/ANI27/KR1/TI17/TO17/INTP6/!SCK11!/SCL11/SNZOUT5, 39 P70/ANI26/KR0/TI15/TO15/INTP8/SI11/SDA11/SNZOUT4, 40 P32/TI16/TO16/INTP7, 41 P30/TI01/TO01/TRDIOD1/!SSI00!/INTP2/SNZOUT0, 42 P17/TI00/TO00/TRDIOB1/!SCK00!/SCL00/INTP3, 43 P16/TI02/TO02/TRDIOC1/SI00/SDA00/RXD0/TOOLRXD, 44 P15/TI05/TO05/TRDIOA1/(TRDIOA0)/(TRDCLK0)/SO00/TXD0/TOOLTXD/RTC1HZ, 45 P31/TI14/TO14/STOPST/INTP2, 46 P50/!SSI01!/INTP3, 47 P51/SO01/INTP11, 48 P52/!SCK01!/STOPST, 49 P53/SI01/INTP10, 50 P14/TI06/TO06/TRDIOC0/!SCK01!/SCL01/LRXD0, 51 P13/TI04/TO04/TRDIOA0/TRDCLK0/SI01/SDA01/LTXD0, 52 P12/TI11/TO11/TRDIOD0/INTP5/SO10/TXD1/SNZOUT3, 53 P11/TI12/TO12/TRDIOB0/SI10/SDA10/RXD1/LRXD1/CRXD0, 54 P10/TI13/TO13/TRJO0/!SCK10!/SCL10/LTXD1/CTXD0, 55 P54/TI11/TO11/!SSI10, 56 P55/TI13/TO13, 57 P56/TI15/TO15/SNZOUT1, 58 P57/TI17/TO17/SNZOUT0, 59 P33/AVREFP/ANI0, 60 P34/AVREFM/ANI1, 61 P80/ANI2/ANO0, 62 P81/ANI3/IVCMP00, 63 P82/ANI4/IVCMP01, 64 P83/ANI5/IVCMP02, 65 P84/ANI6/IVCMP03, 66 P85/ANI7/IVREF0, 67 P86/ANI8, 68 P87/ANI9, 69 P90/ANI10, 70 P91/ANI11, 71 P92/ANI12, 72 P93/ANI13, 73 P94/ANI14, 74 P95/ANI15, 75 P96/ANI16, 76 P97/ANI17, 77 P02/TI06/TO06, 78 P126/TI01/TO01, 79 P01/TI04/TO04, 80 P125/ANI24/TI03/TO03/TRDIOB0/!SSI01!/INTP1/SNZOUT1

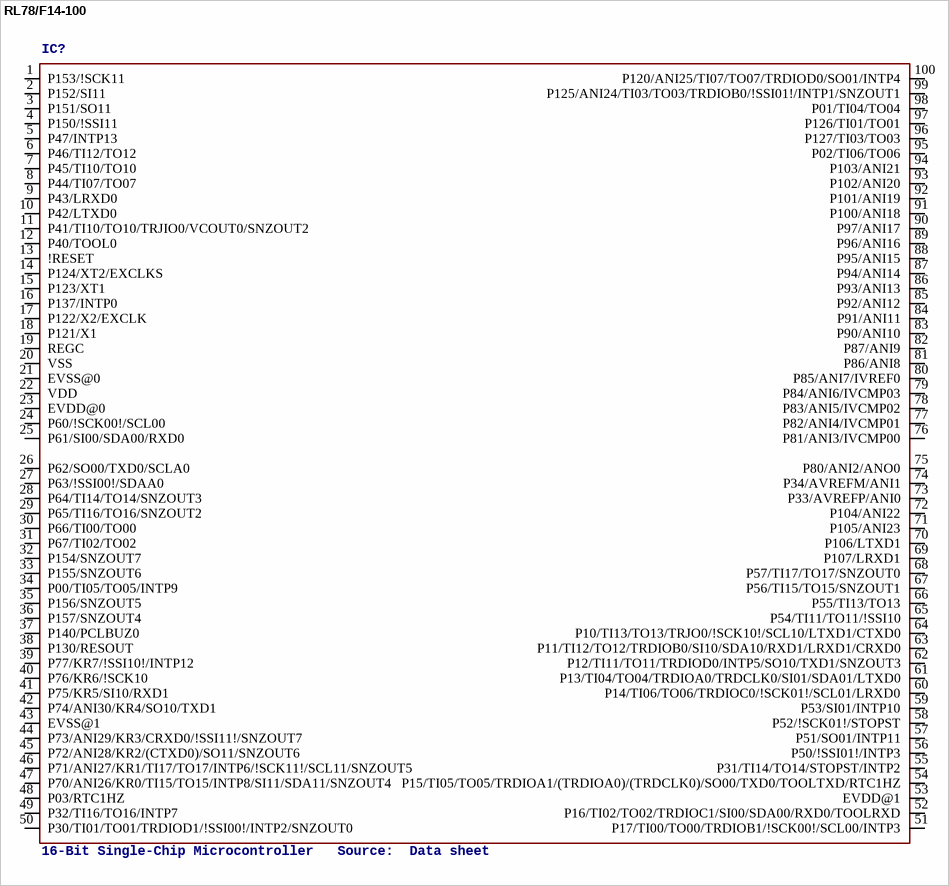
[diagram p6: symbol RL78/F14-100]

## RL78/F14-100
designator IC?, comment 16-Bit Single-Chip Microcontroller   Source:  Data sheet
footprint P-LFQFP100-14X14
pins: 1 P153/!SCK11, 2 P152/SI11, 3 P151/SO11, 4 P150/!SSI11, 5 P47/INTP13, 6 P46/TI12/TO12, 7 P45/TI10/TO10, 8 P44/TI07/TO07, 9 P43/LRXD0, 10 P42/LTXD0, 11 P41/TI10/TO10/TRJIO0/VCOUT0/SNZOUT2, 12 P40/TOOL0, 13 !RESET, 14 P124/XT2/EXCLKS, 15 P123/XT1, 16 P137/INTP0, 17 P122/X2/EXCLK, 18 P121/X1, 19 REGC, 20 VSS (power), 21 EVSS@0 (power), 22 VDD (power), 23 EVDD@0 (power), 24 P60/!SCK00!/SCL00, 25 P61/SI00/SDA00/RXD0, 26 P62/SO00/TXD0/SCLA0, 27 P63/!SSI00!/SDAA0, 28 P64/TI14/TO14/SNZOUT3, 29 P65/TI16/TO16/SNZOUT2, 30 P66/TI00/TO00, 31 P67/TI02/TO02, 32 P154/SNZOUT7, 33 P155/SNZOUT6, 34 P00/TI05/TO05/INTP9, 35 P156/SNZOUT5, 36 P157/SNZOUT4, 37 P140/PCLBUZ0, 38 P130/RESOUT, 39 P77/KR7/!SSI10!/INTP12, 40 P76/KR6/!SCK10, 41 P75/KR5/SI10/RXD1, 42 P74/ANI30/KR4/SO10/TXD1, 43 EVSS@1 (power), 44 P73/ANI29/KR3/CRXD0/!SSI11!/SNZOUT7, 45 P72/ANI28/KR2/(CTXD0)/SO11/SNZOUT6, 46 P71/ANI27/KR1/TI17/TO17/INTP6/!SCK11!/SCL11/SNZOUT5, 47 P70/ANI26/KR0/TI15/TO15/INTP8/SI11/SDA11/SNZOUT4, 48 P03/RTC1HZ, 49 P32/TI16/TO16/INTP7, 50 P30/TI01/TO01/TRDIOD1/!SSI00!/INTP2/SNZOUT0, 51 P17/TI00/TO00/TRDIOB1/!SCK00!/SCL00/INTP3, 52 P16/TI02/TO02/TRDIOC1/SI00/SDA00/RXD0/TOOLRXD, 53 EVDD@1 (power), 54 P15/TI05/TO05/TRDIOA1/(TRDIOA0)/(TRDCLK0)/SO00/TXD0/TOOLTXD/RTC1HZ, 55 P31/TI14/TO14/STOPST/INTP2, 56 P50/!SSI01!/INTP3, 57 P51/SO01/INTP11, 58 P52/!SCK01!/STOPST, 59 P53/SI01/INTP10, 60 P14/TI06/TO06/TRDIOC0/!SCK01!/SCL01/LRXD0, 61 P13/TI04/TO04/TRDIOA0/TRDCLK0/SI01/SDA01/LTXD0, 62 P12/TI11/TO11/TRDIOD0/INTP5/SO10/TXD1/SNZOUT3, 63 P11/TI12/TO12/TRDIOB0/SI10/SDA10/RXD1/LRXD1/CRXD0, 64 P10/TI13/TO13/TRJO0/!SCK10!/SCL10/LTXD1/CTXD0, 65 P54/TI11/TO11/!SSI10, 66 P55/TI13/TO13, 67 P56/TI15/TO15/SNZOUT1, 68 P57/TI17/TO17/SNZOUT0, 69 P107/LRXD1, 70 P106/LTXD1, 71 P105/ANI23, 72 P104/ANI22, 73 P33/AVREFP/ANI0, 74 P34/AVREFM/ANI1, 75 P80/ANI2/ANO0, 76 P81/ANI3/IVCMP00, 77 P82/ANI4/IVCMP01, 78 P83/ANI5/IVCMP02, 79 P84/ANI6/IVCMP03, 80 P85/ANI7/IVREF0, 81 P86/ANI8, 82 P87/ANI9, 83 P90/ANI10, 84 P91/ANI11, 85 P92/ANI12, 86 P93/ANI13, 87 P94/ANI14, 88 P95/ANI15, 89 P96/ANI16, 90 P97/ANI17, 91 P100/ANI18, 92 P101/ANI19, 93 P102/ANI20, 94 P103/ANI21, 95 P02/TI06/TO06, 96 P127/TI03/TO03, 97 P126/TI01/TO01, 98 P01/TI04/TO04, 99 P125/ANI24/TI03/TO03/TRDIOB0/!SSI01!/INTP1/SNZOUT1, 100 P120/ANI25/TI07/TO07/TRDIOD0/SO01/INTP4